# Altium footprint library EEEHA1H101UP.PcbLib: 2 footprints
Each footprint in its own frame and in the unit in brackets; x right, y up, seen from the top. Pads: shape width x height; smd on the part's side, far side on the other; paste and mask are expansions set on the pad; w line width, h text height; cw(c..) or ccw(c..) is an arc to the next point about the centre after c.
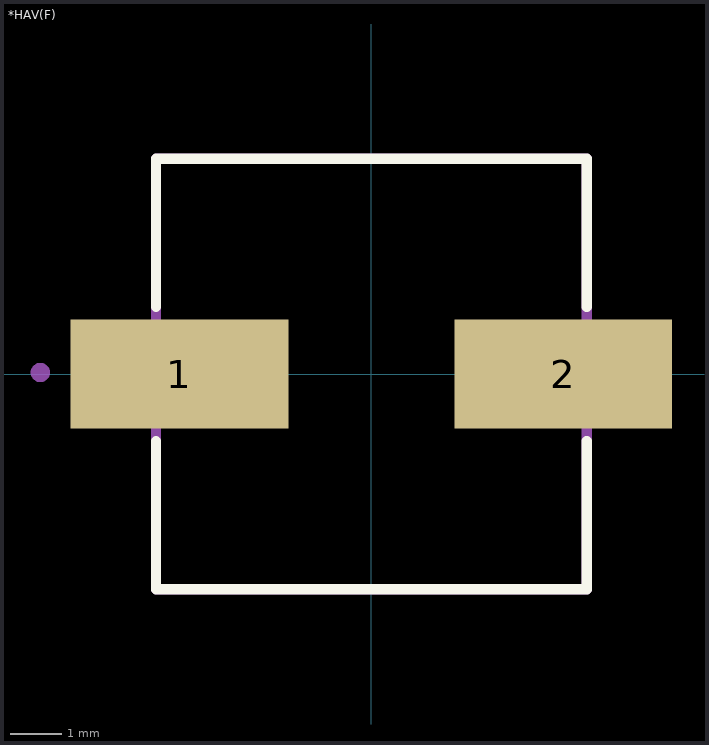
[diagram p0: the footprints below, top view; thin cyan lines are the x and y axes]

## *HAV(F) [mm]
pads (2):
  rect 4.2x2.1 smd: 1(-3.7,0) 2(3.7,0)
Top Overlay:
  lines w0.2: -4.15,-1.3 -4.15,-4.15 4.15,-4.15 4.15,-1.3 ; -4.15,1.3 -4.15,4.15 4.15,4.15 4.15,1.3
Mechanical 4:
  circle w0.2: c-6.383,0.029 r0.085
  circle w0.2: c-6.383,0.029 r0.085
  lines w0.2: -4.15,-4.15 -4.15,4.15 ; -4.15,-4.15 4.15,-4.15 ; -4.15,-4.15 -4.15,4.15 ; -4.15,-4.15 4.15,-4.15 ; -4.15,4.15 4.15,4.15 ; -4.15,4.15 4.15,4.15 ; 4.15,-4.15 4.15,4.15 ; 4.15,-4.15 4.15,4.15

## PCBComponent_1 [mm]